# Altium schematic symbol library SN65LVDS2DBVT.SchLib: 1 symbol
Pins are listed as number, name and electrical type; pins without a type are passive.

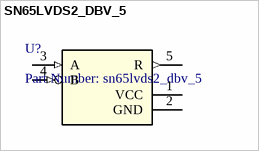
[diagram p0: symbol SN65LVDS2_DBV_5]

## SN65LVDS2_DBV_5
designator U?, comment Part Number: sn65lvds2_dbv_5
Single LVDS Receiver; Manufacturer: Texas Instruments; INDUSTRY_STD_PKG_TYPE: SOT-23; FAMILY_NAME: LVDS PHY (<800MBPS); PIN_COUNT: 5; PACKAGE_DESIGNATOR: DBV; Datasheet_URL: http://www.ti.com/lit/gpn/SN65LVDS2; GENERIC_PART_NUMBER: SN65LVDS2; Vendor: Texas Instruments; Manufacturer_Part_Number: sn65lvds2_dbv_5; Copyright: Copyright (C) 2018 Accelerated Designs. All rights reserved; RefDes: RefDes; Type: DEV; Value: Value
footprint DBV5
pins: 1 VCC (power), 2 GND (power), 3 A (in), 4 B (in), 5 R (out)